# Altium footprint library TXS0108e.PcbLib: 2 footprints
Each footprint in its own frame and in the unit in brackets; x right, y up, seen from the top. Pads: shape width x height; smd on the part's side, far side on the other; paste and mask are expansions set on the pad; w line width, h text height; cw(c..) or ccw(c..) is an arc to the next point about the centre after c.
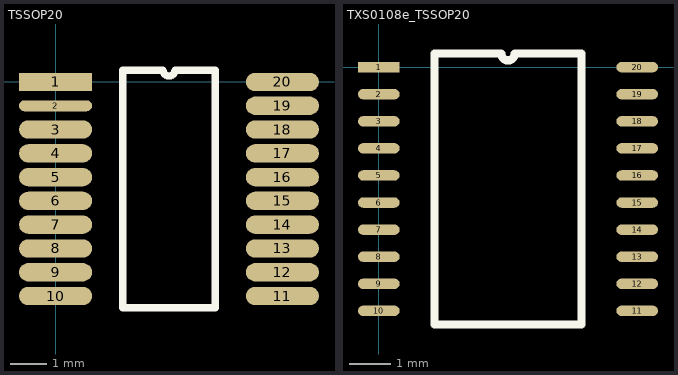
[diagram p0: the footprints below, top view; thin cyan lines are the x and y axes]

## TSSOP20 [mm]
pads (20):
  rect 2x0.5 smd: 1(0,0)
  oval 2x0.3 smd: 2(0,-0.65)
  oval 2x0.5 smd: 3(0,-1.3) 4(0,-1.95) 5(0,-2.6) 6(0,-3.25) 7(0,-3.9) 8(0,-4.55) 9(0,-5.2) 10(0,-5.85) 11(6.2,-5.85) 12(6.2,-5.2) 13(6.2,-4.55) 14(6.2,-3.9) 15(6.2,-3.25) 16(6.2,-2.6) 17(6.2,-1.95) 18(6.2,-1.3) 19(6.2,-0.65) 20(6.2,0)
Top Overlay:
  lines w0.2: 1.835,-6.175 1.835,0.325 2.937,0.325 ccw(c3.1,0.325) 3.262,0.325 4.365,0.325 4.365,-6.175 1.835,-6.175

## TXS0108e_TSSOP20 [mm]
pads (20):
  rect 1x0.25 smd: 1(0,0)
  oval 1x0.25 smd: 2(0,-0.65) 3(0,-1.3) 4(0,-1.95) 5(0,-2.6) 6(0,-3.25) 7(0,-3.9) 8(0,-4.55) 9(0,-5.2) 10(0,-5.85) 11(6.2,-5.85) 12(6.2,-5.2) 13(6.2,-4.55) 14(6.2,-3.9) 15(6.2,-3.25) 16(6.2,-2.6) 17(6.2,-1.95) 18(6.2,-1.3) 19(6.2,-0.65) 20(6.2,0)
Top Overlay:
  lines w0.2: 1.335,-6.175 1.335,0.325 2.937,0.325 ccw(c3.1,0.325) 3.262,0.325 4.865,0.325 4.865,-6.175 1.335,-6.175